# Altium footprint library stm32F030x.PCBLIB: 1 footprints
Each footprint in its own frame and in the unit in brackets; x right, y up, seen from the top. Pads: shape width x height; smd on the part's side, far side on the other; paste and mask are expansions set on the pad; w line width, h text height; cw(c..) or ccw(c..) is an arc to the next point about the centre after c.
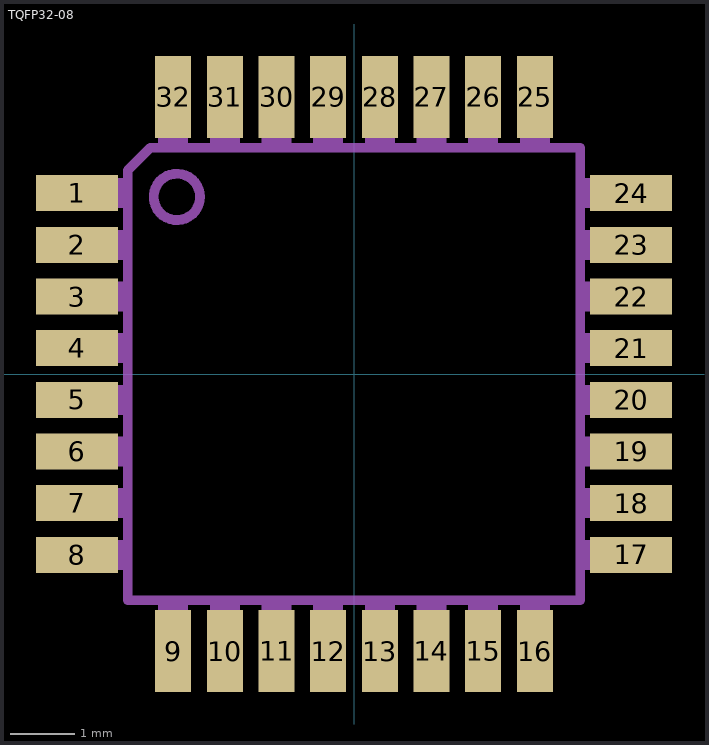
[diagram p0: the footprint, top view; thin cyan lines are the x and y axes]

## TQFP32-08 [mil]
pads (32):
  rect 50x22 smd: 1(-169,110.24) 2(-169,78.74) 3(-169,47.24) 4(-169,15.75) 5(-169,-15.75) 6(-169,-47.24) 7(-169,-78.74) 8(-169,-110.24) 17(169,-110.24) 18(169,-78.74) 19(169,-47.24) 20(169,-15.75) 21(169,15.75) 22(169,47.24) 23(169,78.74) 24(169,110.24)
  rect 22x50 smd: 9(-110.24,-169) 10(-78.74,-169) 11(-47.24,-169) 12(-15.75,-169) 13(15.75,-169) 14(47.24,-169) 15(78.74,-169) 16(110.24,-169) 25(110.24,169) 26(78.74,169) 27(47.24,169) 28(15.75,169) 29(-15.75,169) 30(-47.24,169) 31(-78.74,169) 32(-110.24,169)
Top Overlay:
  text "." at -120,105 h60
Mechanical 8:
  region: -119.24,140 -119.24,179 -101.24,179 -101.24,140
  region: -87.74,140 -87.74,179 -69.74,179 -69.74,140
  region: -56.24,140 -56.24,179 -38.24,179 -38.24,140
  region: -24.75,140 -24.75,179 -6.75,179 -6.75,140
  region: 6.75,140 6.75,179 24.75,179 24.75,140
  region: 38.24,140 38.24,179 56.24,179 56.24,140
  region: 69.74,140 69.74,179 87.74,179 87.74,140
  region: 101.24,140 101.24,179 119.24,179 119.24,140
  region: 140,101.24 140,119.24 179,119.24 179,101.24
  region: 140,69.74 140,87.74 179,87.74 179,69.74
  region: 140,38.24 140,56.24 179,56.24 179,38.24
  region: 140,6.75 140,24.75 179,24.75 179,6.75
  region: 140,-24.75 140,-6.75 179,-6.75 179,-24.75
  region: 140,-56.24 140,-38.24 179,-38.24 179,-56.24
  region: 140,-87.74 140,-69.74 179,-69.74 179,-87.74
  region: 140,-119.24 140,-101.24 179,-101.24 179,-119.24
  region: 101.24,-179 101.24,-140 119.24,-140 119.24,-179
  region: 69.74,-179 69.74,-140 87.74,-140 87.74,-179
  region: 38.24,-179 38.24,-140 56.24,-140 56.24,-179
  region: 6.75,-179 6.75,-140 24.75,-140 24.75,-179
  region: -24.75,-179 -24.75,-140 -6.75,-140 -6.75,-179
  region: -56.24,-179 -56.24,-140 -38.24,-140 -38.24,-179
  region: -87.74,-179 -87.74,-140 -69.74,-140 -69.74,-179
  region: -119.24,-179 -119.24,-140 -101.24,-140 -101.24,-179
  region: -179,-119.24 -179,-101.24 -140,-101.24 -140,-119.24
  region: -179,-87.74 -179,-69.74 -140,-69.74 -140,-87.74
  region: -179,-56.24 -179,-38.24 -140,-38.24 -140,-56.24
  region: -179,-24.75 -179,-6.75 -140,-6.75 -140,-24.75
  region: -179,6.75 -179,24.75 -140,24.75 -140,6.75
  region: -179,38.24 -179,56.24 -140,56.24 -140,38.24
  region: -179,69.74 -179,87.74 -140,87.74 -140,69.74
  region: -179,101.24 -179,119.24 -140,119.24 -140,101.24
Mechanical 22:
  circle w6: c-108,108 r14.14
  lines w6: -137.99,-137.99 -137.99,124.02 -124.02,137.99 137.99,137.99 137.99,-137.99 -137.99,-137.99